# Altium footprint library 1_to_5_Pin.PcbLib: 174 footprints (part 7 of 11)
Each footprint in its own frame and in the unit in brackets; x right, y up, seen from the top. Pads: shape width x height; smd on the part's side, far side on the other; paste and mask are expansions set on the pad; w line width, h text height; cw(c..) or ccw(c..) is an arc to the next point about the centre after c.
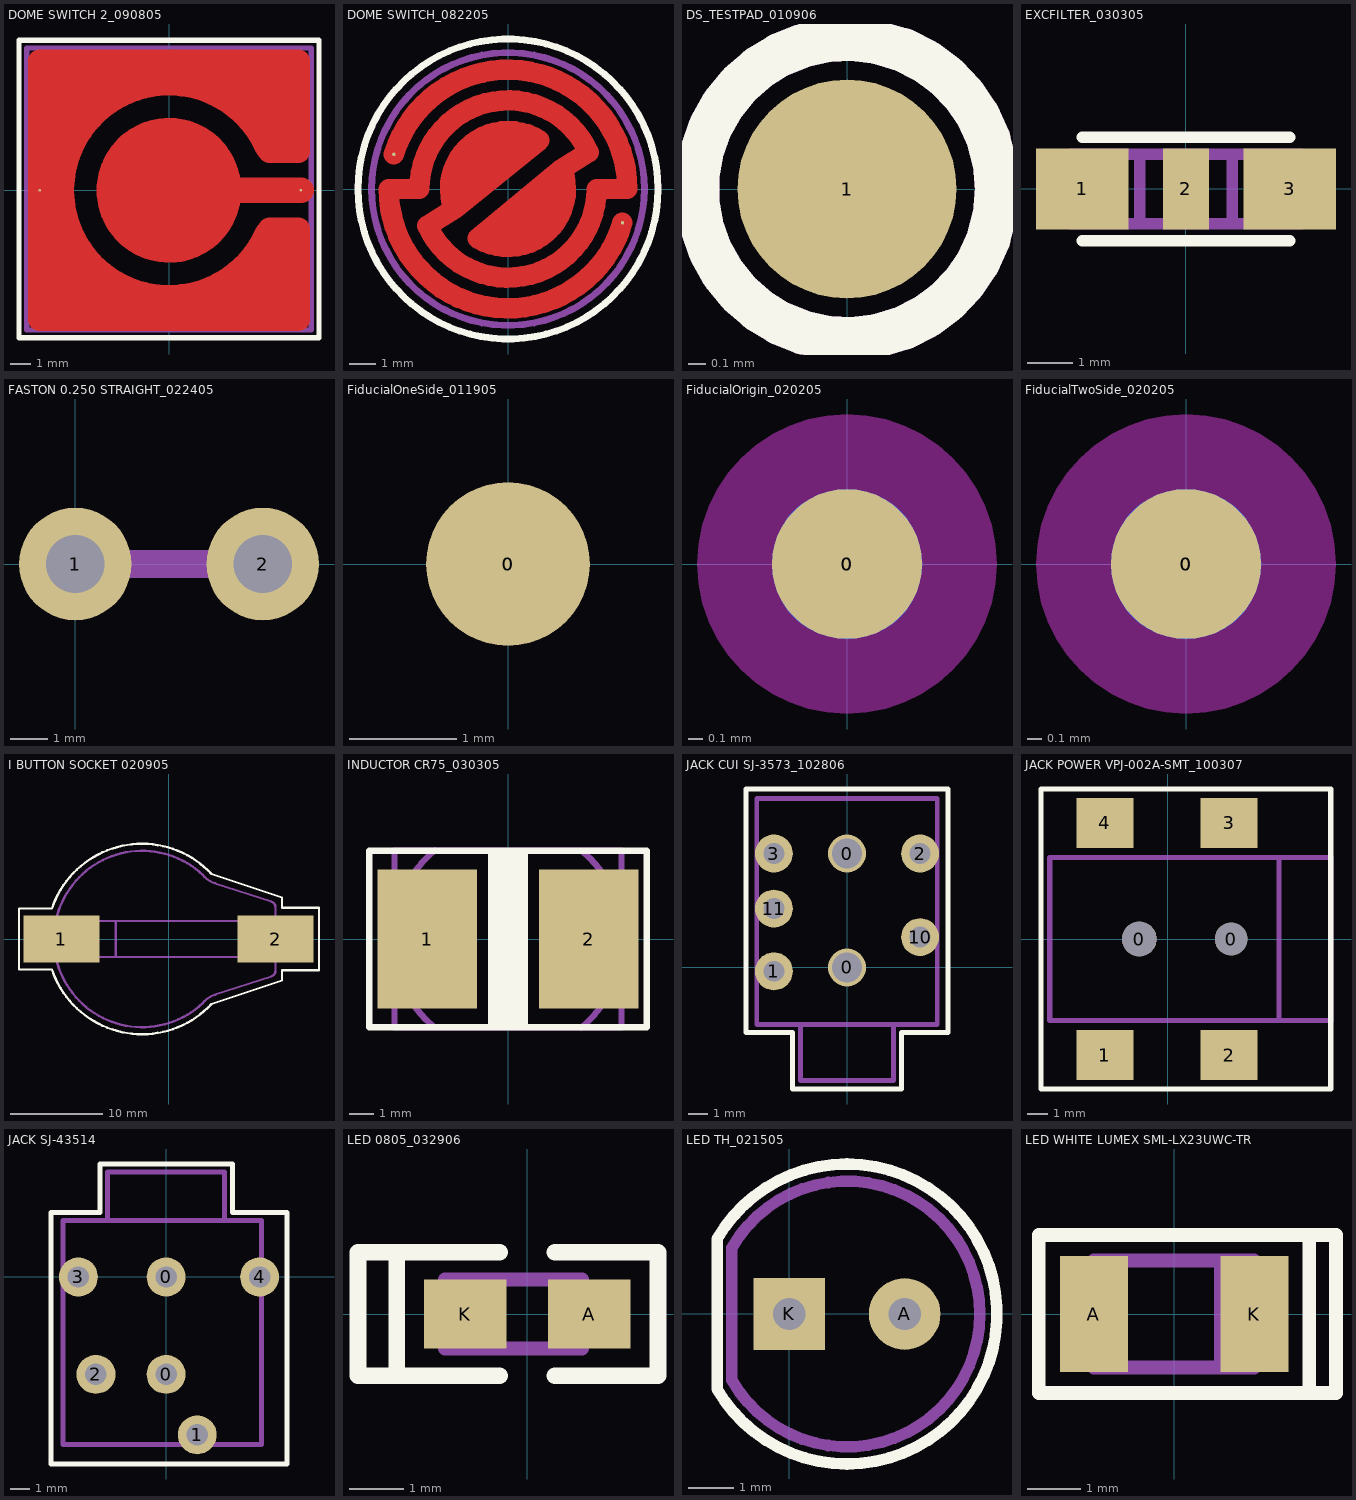
[diagram p6: the footprints below, top view; thin cyan lines are the x and y axes]

## DOME SWITCH 2_090805 [mil] "SMT"
height 39.37
pads (2):
  round 5 smd: 1(-250,0) 2(255,0)
Top Layer:
  circle w100: c0,0 r90
  lines w45: 195,-75 250,-75 250,-250 0,-250 -250,-250 -250,0 -250,250 0,250 250,250 250,75 195,75
  lines w50: 0,0 255,0
  lines w75: -225,-200 -130,-200 ; -225,-170 -225,-95 ; -225,95 -225,170 ; -225,200 -130,200 ; -195,-160 -155,-160 ; 120,-210 225,-210 ; 120,210 225,210 ; 201.49,-90.14 cw(c0,0) -220.74,0 cw(c0,0) 201.49,90.14 ; 210,-210 210,-140 ; 210,140 210,210
  lines w125: -55,-55 50,60
Top Overlay:
  lines w10: -290,-285 -290,290 290,290 290,-285 -290,-285
Top Solder:
  circle w100: c0,0 r90
  lines w45: 195,-75 250,-75 250,-250 0,-250 -250,-250 -250,0 -250,250 0,250 250,250 250,75 195,75
  lines w50: 0,0 255,0
  lines w75: -225,-200 -130,-200 ; -225,-170 -225,-95 ; -225,95 -225,170 ; -225,200 -130,200 ; -195,-160 -155,-160 ; 120,-210 225,-210 ; 120,210 225,210 ; 201.49,-90.14 cw(c0,0) -220.74,0 cw(c0,0) 201.49,90.14 ; 210,-210 210,-140 ; 210,140 210,210
  lines w125: -55,-55 50,60
Assembly Outline:
  lines w10: -275,-270 -275,275 275,275 275,-270 -275,-270
Assembly Designator:
  text ".Designator" at -50,-15 h40
Assembly Comment:
  text ".Comment" at -155,-345 h40

## DOME SWITCH_082205 [mil] "SMT"
height 39.37
pads (2):
  round 5 smd: 1(-167.48,50.75) 2(167.89,-49.38)
Top Layer:
  lines w30: -167.48,50.75 cw(c0,0) 175,0 130,0 cw(c0,0) -118.18,-54.17 -79.59,-29.85 ; 167.89,-49.38 cw(c0,0) -175,0 -130,0 cw(c0,0) 118.18,54.17 79.59,29.85 ; -79.59,-29.85 cw(c0,0) 45.96,71.5 -79.59,-29.85 ; 79.59,29.85 cw(c0,0) -44.55,-72.39 79.59,29.85
  lines w60: -60,15 0,65 ; 5,-60 65,-10
Top Overlay:
  circle w10: c0,0 r220
Top Solder:
  lines w30: -167.48,50.75 cw(c0,0) 175,0 130,0 cw(c0,0) -118.18,-54.17 -79.59,-29.85 ; 167.89,-49.38 cw(c0,0) -175,0 -130,0 cw(c0,0) 118.18,54.17 79.59,29.85 ; -79.59,-29.85 cw(c0,0) 45.96,71.5 -79.59,-29.85 ; 79.59,29.85 cw(c0,0) -44.55,-72.39 79.59,29.85
  lines w60: -60,15 0,65 ; 5,-60 65,-10
Assembly Outline:
  circle w10: c0,0 r200
Assembly Designator:
  text ".Designator" at -40,-15 h40
Assembly Comment:
  text ".Comment" at -185,-270 h40

## DS_TESTPAD_010906 [mil] "SMT"
pads (1):
  round 50 smd mask+1: 1(0,0)
Top Overlay:
  circle w10: c0,0 r34.25
Assembly Outline:
  circle w10: c0,0 r34.25
Assembly Designator:
  text ".Designator" at -6.89,21.65 h25
Assembly Comment:
  text ".Comment" at -70,-85 h40

## EXCFILTER_030305 [mil] "SMT"
height 125
pads (3):
  rect 80x70 smd: 1(-90,0) 3(90,0)
  rect 40x70 smd: 2(0,0)
Top Overlay:
  lines w10: -90,-45 90,-45 ; -90,45 90,45
Assembly Outline:
  lines w10: -40,-30 -40,30 ; 40,-30 40,30 ; -100,-30 -100,30 100,30 100,-30 -100,-30
Assembly Designator:
  text ".Designator" at -35,-15 h40
Assembly Comment:
  text ".Comment" at -115,-85 h40

## FASTON 0.250 STRAIGHT_022405 [mil] "TH"
height 400
pads (2):
  round 120 hole 62: 1(0,0) 2(200,0)
Assembly Outline:
  rectangle: -55,-15 255,15
Assembly Designator:
  text ".Designator" at 45,70 h40
Assembly Comment:
  text ".Comment" at -50,-80 h40

## FiducialOneSide_011905 [mil] "FEATURE SMT PCB"
pads (2):
  round 60 smd: 0(0,0)
  round 110 on Top Solder: 0(0,0)

## FiducialOrigin_020205 [mil] "FEATURE SMT PCB"
pads (3):
  round 40 smd mask+20: 0(0,0)
  round 40 smd far side paste+0 mask+20: 0(0,0)
  round 80 on Keep-Out: 0(0,0)

## FiducialTwoSide_020205 [mil] "FEATURE SMT PCB"
pads (3):
  round 40 smd mask+20: 0(0,0)
  round 40 smd far side paste+0 mask+20: 0(0,0)
  round 80 on Keep-Out: 0(0,0)

## I BUTTON SOCKET 020905 [mm] "SMT"
height 11.938
pads (2):
  rect 8.2x5.1 smd: 1(-11.6,0) 2(11.6,0)
Top Overlay:
  lines w0.254: -16.192,-0.008 -16.192,-3.308 -12.624,-3.308 ccw(c-2.87,-0.024) 4.659,-7.041 12.3,-4.5 12.3,-3.4 16.3,-3.4 16.3,0 16.3,3.4 12.3,3.4 12.3,4.5 4.659,7.041 ccw(c-2.87,0.024) -12.624,3.308 -16.192,3.308 -16.192,0.008
Assembly Outline:
  lines w0.254: -12.4,-0.8 -9.4,-0.8 ; -12.4,0.8 -9.4,0.8 ; -5.7,-1.95 -5.7,1.95 ; 12,-0.8 11.582,-0.8 ; 12,0.8 11.582,0.8 ; -14.9,-1.6 -12.4,-1.6 ; -14.9,-1.6 -14.9,1.6 ; -14.9,-1.6 -12.4,-1.6 ; -14.9,-1.6 -14.9,1.6 ; -14.9,1.6 -12.4,1.6 ; -14.9,1.6 -12.4,1.6 ; -12.4,-1.6 -12.4,0 ; -12.4,-1.6 -12.4,0 ; -12.4,0 ccw(c-2.85,0) 3.7,-6.95 cw(c6,-8.85) 5.057,-6.02 11.15,-4.05 ccw(c10.95,-3.45) 11.582,-3.45 11.582,-0.8 ; -12.4,0 cw(c-2.85,0) 3.7,6.95 ccw(c6,8.85) 5.057,6.02 11.15,4.05 cw(c10.95,3.45) 11.582,3.45 11.582,0.8 ; -12.4,0 -12.4,1.6 ; -12.4,0 -12.4,1.6 ; -9.4,-0.8 -9.4,0 ; -9.4,-0.8 -9.4,-1.95 9.3,-1.95 9.3,-0.8 ; -9.4,0 -9.4,0.8 ; -9.4,0 -9.4,1.95 ; -9.4,0.8 -9.4,1.95 ; -9.4,1.95 9.3,1.95 9.3,0.8 ; 9.3,-0.8 11.582,-0.8 ; 9.3,-0.8 9.3,0 9.3,0.8 ; 9.3,0.8 11.582,0.8 ; 12,-1.6 14.5,-1.6 ; 12,-1.6 12,1.6 ; 12,-1.6 14.5,-1.6 ; 12,-1.6 12,1.6 ; 12,1.6 14.5,1.6 ; 12,1.6 14.5,1.6 ; 14.5,-1.6 14.5,0 ; 14.5,-1.6 14.5,0 ; 14.5,0 14.5,1.6 ; 14.5,0 14.5,1.6

## INDUCTOR CR75_030305 [mm] "SMT"
height 5.08
pads (2):
  rect 4x5.588 smd: 1(-3.25,0) 2(3.25,0)
Top Overlay:
  rectangle: -0.8,-3.556 0.8,3.556
  lines w0.254: -5.588,-3.556 -5.588,3.556 5.588,3.556 5.588,-3.556 -5.588,-3.556
Assembly Outline:
  lines w0.254: -3.016,-3.519 cw(c0,0) -4.572,-0.762 ; -2.942,3.582 ccw(c0,0) -4.572,0.762 ; 2.942,-3.582 ccw(c0,0) 4.572,-0.762 ; 3.016,3.519 cw(c0,0) 4.572,0.762 ; -4.572,-0.762 ccw(c-4.572,0) -4.572,0.762 ; -4.572,-0.762 -4.572,-3.556 4.572,-3.556 4.572,-0.762 ; -4.572,0.762 -4.572,3.556 4.572,3.556 4.572,0.762 ; 4.572,-0.762 cw(c4.572,0) 4.572,0.762
Assembly Designator:
  text ".Designator" at -4.064,-0.508 h1.02
Assembly Comment:
  text ".Comment" at -4.572,-4.953 h1.02

## JACK CUI SJ-3573_102806 [mm] "TH"
height 2.5
pads (7):
  round 2 hole 1.6: 0(0,0) 0(0,6)
  round 2 hole 1.1: 1(-3.85,-0.2) 2(3.85,6) 3(-3.85,6) 10(3.85,1.6) 11(-3.85,3.1)
Top Overlay:
  lines w0.254: -5.325,-3.425 -2.875,-3.425 -2.875,-6.4 0,-6.4 2.875,-6.4 2.875,-3.425 5.325,-3.425 5.325,9.4 0,9.4 -5.325,9.4 -5.325,-3.425
Assembly Outline:
  lines w0.254: 0,-3 -2.45,-3 -2.45,-5.95 0,-5.95 2.45,-5.95 2.45,-3 0,-3 ; 0,-3 -4.75,-3 -4.75,8.9 0,8.9 4.75,8.9 4.75,-3 0,-3
Assembly Designator:
  text ".Designator" at -1,2.5 h1.02
Assembly Comment:
  text ".Comment" at -2.25,10 h1.02

## JACK POWER VPJ-002A-SMT_100307 [mm] "SMT"
height 2.54
pads (6):
  round 1.7 hole 1.7 unplated: 0(-1.4,0)
  round 1.6 hole 1.6 unplated: 0(3.1,0)
  rect 2.8x2.45 smd: 1(-3.1,-5.7) 2(3,-5.7) 3(3,5.7) 4(-3.1,5.7)
Top Overlay:
  lines w0.254: -6.226,-7.366 -6.226,7.366 7.998,7.366 7.998,-7.366 -6.226,-7.366
Assembly Outline:
  lines w0.254: 5.46,-4 5.46,4 ; -5.8,-4 -5.8,4 8,4 8,-4 -5.8,-4
Assembly Designator:
  text ".Designator" at -0.127,-2.413 h1.02
Assembly Comment:
  text ".Comment" at -5.08,-3.556 h1.02

## JACK SJ-43514 [mm]
pads (6):
  round 2 hole 1.1: 0(0,-5) 0(0,0) 1(1.6,-8.1) 2(-3.6,-5) 3(-4.5,0) 4(4.8,0)
Top Overlay:
  lines w0.254: -5.9,-9.6 6.2,-9.6 6.2,3.3 3.4,3.3 3.4,5.8 -3.4,5.8 -3.4,3.3 -5.9,3.3 -5.9,-9.6
Assembly Outline:
  lines w0.254: -3,2.9 -3,5.4 0,5.4 3,5.4 3,2.9 ; -5.3,-8.6 -5.3,1.4 -5.3,2.9 4.9,2.9 4.9,-8.6 -5.3,-8.6

## LED 0805_032906 [mil] "SMT"
height 31.5
pads (2):
  rect 60x50 smd: A(45,0) K(-45,0)
Top Overlay:
  lines w12: -20,-45 -95,-45 ; -20,45 -95,45 ; 20,-45 95,-45 95,45 20,45 ; -95,-45 -95,45 ; -95,-45 -123.03,-45 -123.03,45 -95,45
Assembly Outline:
  lines w10: -40,-25 -40,25 ; -40,-25 40,-25 40,25 -40,25 ; -40,-25 -60.04,-25 -60.04,25 -40,25
Assembly Designator:
  text ".Designator" at -58.07,43.31 h40
Assembly Comment:
  text ".Comment" at -77.76,-85.63 h40

## LED TH_021505 [mil] "TH"
height 250
pads (2):
  round 62 hole 28: A(100,0)
  rect 62x62 hole 28: K(0,0)
Top Overlay:
  lines w10: -62.58,-65 ccw(c50,0) -62.58,65 -62.58,-65
Assembly Outline:
  lines w10: -49.69,-57.55 ccw(c50,0) -49.69,57.55 -49.69,-57.55
Assembly Designator:
  text ".Designator" at -10,-15 h40
Assembly Comment:
  text ".Comment" at -75,-165 h40

## LED WHITE LUMEX SML-LX23UWC-TR [mil] "SMT"
height 55.12
pads (2):
  rect 50x85 smd: A(-59.06,0) K(59.06,0)
Top Overlay:
  lines w10: 99.41,-58.07 0,-58.07 -99.41,-58.07 -99.41,-33.46 -99.41,58.07 0,58.07 99.41,58.07 ; 99.41,-58.07 99.41,33.46 99.41,58.07 ; 99.41,-58.07 119.09,-58.07 119.09,58.07 99.41,58.07
Assembly Outline:
  lines w10: 34.45,-39.37 34.45,39.37 59.06,39.37 ; 59.06,0 59.06,39.37 ; 59.06,39.37 59.06,-39.37 -59.06,-39.37 -59.06,39.37 59.06,39.37
Assembly Designator:
  text ".Designator" at -44.29,-19.68 h40
Assembly Comment:
  text ".Comment" at -92.52,-110.24 h40